# Altium schematic symbol library 1-776279-1.SchLib: 1 symbol
Pins are listed as number, name and electrical type; pins without a type are passive.

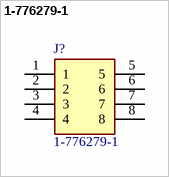
[diagram p0: symbol 1-776279-1]

## 1-776279-1
designator J?
Automotive Connectors 8 POS RIGHT ANGLE HDR ASSY; Manufacturer_Name: TE Connectivity; Geometry.Height: 32.1mm; Mouser Part Number: 571-1-776279-1; Mouser Price/Stock: https://www.mouser.co.uk/ProductDetail/TE-Connectivity/1-776279-1?qs=tLAa1RwIH6fAW8GUe6Xfuw%3D%3D; Manufacturer_Part_Number: 1-776279-1; Datasheet Link: https://www.te.com/commerce/DocumentDelivery/DDEController?Action=showdoc&DocId=Customer+Drawing%7F776279%7FF7%7Fpdf%7FEnglish%7FENG_CD_776279_F7.pdf%7F1-776279-1
footprint 17762791
pins: 1, 2, 3, 4, 5, 6, 7, 8